# EAGLE library part HC908JL8CDW (library MOTOROLA)
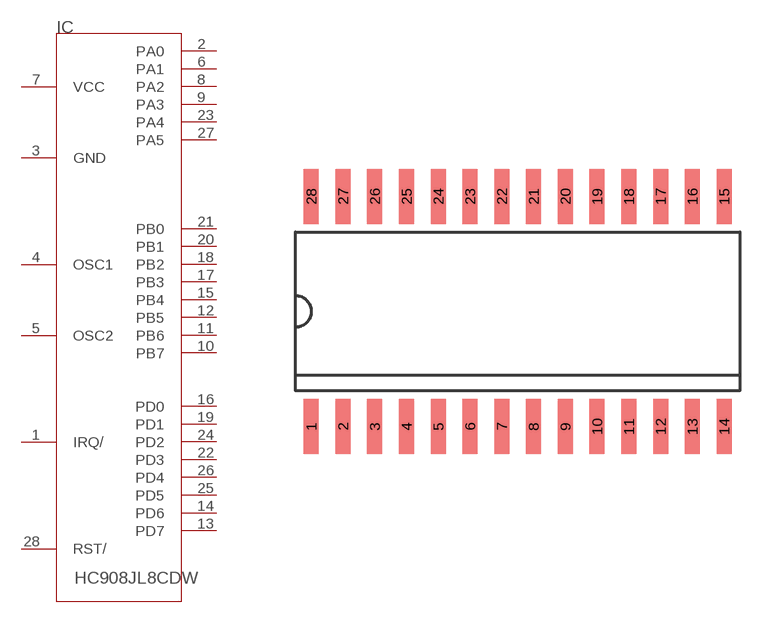
[diagram p56: symbol with the pads of SOIC28W; footprint SOIC28W]

Designator prefix IC

## HC908JL8CDW  [SOIC28W]
1  IRQ/
2  PA0
3  GND
4  OSC1
5  OSC2
6  PA1
7  VCC
8  PA2
9  PA3
10  PB7
11  PB6
12  PB5
13  PD7
14  PD6
15  PB4
16  PD0
17  PB3
18  PB2
19  PD1
20  PB1
21  PB0
22  PD3
23  PA4
24  PD2
25  PD5
26  PD4
27  PA5
28  RST/

## Footprint SOIC28W (pad centres in mm)
smd 0.6 x 2.2: 1 -8.255,-4.6; 2 -6.985,-4.6; 3 -5.715,-4.6; 4 -4.445,-4.6; 5 -3.175,-4.6; 6 -1.905,-4.6; 7 -0.635,-4.6; 8 0.635,-4.6; 9 1.905,-4.6; 10 3.175,-4.6; 11 4.445,-4.6; 12 5.715,-4.6; 13 6.985,-4.6; 14 8.255,-4.6; 15 8.255,4.6; 16 6.985,4.6; 17 5.715,4.6; 18 4.445,4.6; 19 3.175,4.6; 20 1.905,4.6; 21 0.635,4.6; 22 -0.635,4.6; 23 -1.905,4.6; 24 -3.175,4.6; 25 -4.445,4.6; 26 -5.715,4.6; 27 -6.985,4.6; 28 -8.255,4.6